# EAGLE library part SPARKFUN_AUDIO-AMP-MONO (library Arduino)
SparkFun Mono Audio Amp Breakout- TPA2005D1 This tiny audio amplifier is based on the Texas Instruments TPA2005D1. Its efficient class-D operation means low heat and long battery life. It can drive an 8-Ohm speaker at up to 1.4 Watts SparkFun Products: Mono Audio Amp Breakout <https://www.sparkfun.com/products/11044>
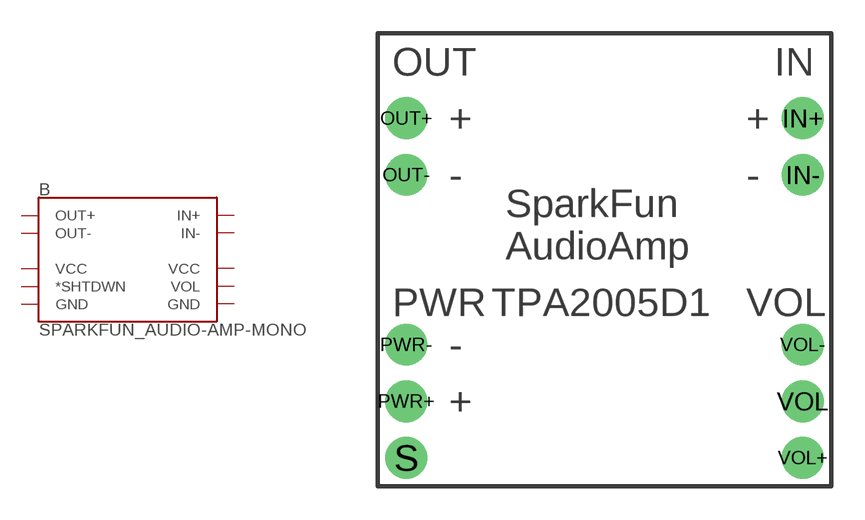
[diagram p5: symbol with the pads of AUDIO-AMP-MONO; footprint AUDIO-AMP-MONO]

Designator prefix B

## SPARKFUN_AUDIO-AMP-MONODIP  [AUDIO-AMP-MONO]
IN+  IN+
IN-  IN-
OUT+  OUT+
OUT-  OUT-
PWR+  VCC
PWR-  GND
S  *SHTDWN
VOL  VOL
VOL+  VCC
VOL-  GND

## Footprint AUDIO-AMP-MONO (pad centres in mm)
Audio Amp Mono PCB Specifications: Pin count: 10 Pin pitch: 0.1" Area:0.8x0.8 in Example device(s): Audio Amp Mono
drill 1.016 pad 1.88: IN+ 8.89,6.35; IN- 8.89,3.81; OUT+ -8.89,6.35; OUT- -8.89,3.81; PWR+ -8.89,-6.35; PWR- -8.89,-3.81; S -8.89,-8.89; VOL 8.89,-6.35; VOL+ 8.89,-8.89; VOL- 8.89,-3.81